# Altium footprint library 117345920.PcbLib: 1 footprints
Each footprint in its own frame and in the unit in brackets; x right, y up, seen from the top. Pads: shape width x height; smd on the part's side, far side on the other; paste and mask are expansions set on the pad; w line width, h text height; cw(c..) or ccw(c..) is an arc to the next point about the centre after c.
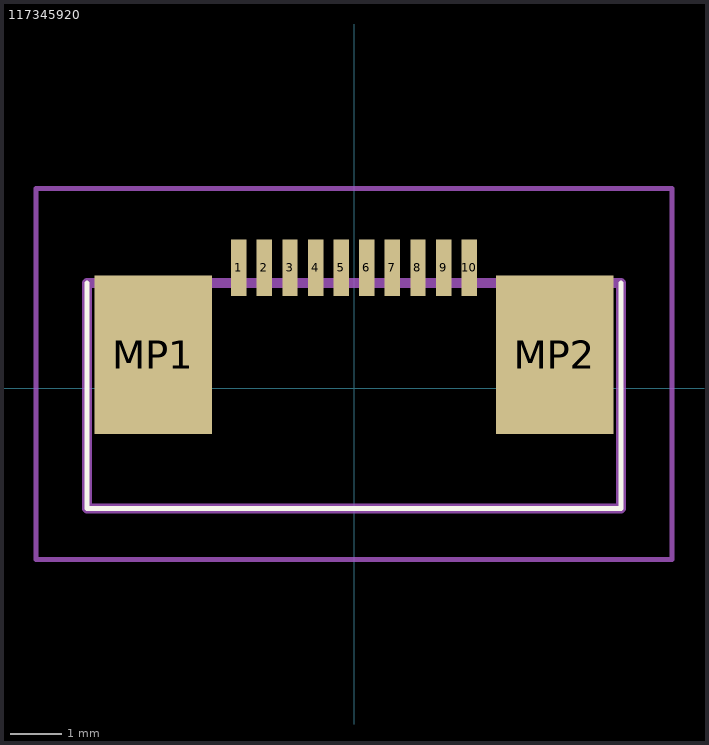
[diagram p0: the footprint, top view; thin cyan lines are the x and y axes]

## 117345920 [mm]
pads (12):
  rect 0.3x1.1 smd: 1(-2.25,2.35) 2(-1.75,2.35) 3(-1.25,2.35) 4(-0.75,2.35) 5(-0.25,2.35) 6(0.25,2.35) 7(0.75,2.35) 8(1.25,2.35) 9(1.75,2.35) 10(2.25,2.35)
  rect 2.3x3.1 smd: MP1(-3.92,0.65) MP2(3.92,0.65)
Top Overlay:
  lines w0.1: -5.215,2.05 -5.215,-2.35 5.215,-2.35 5.215,2.05
Mechanical 15:
  lines w0.2: -5.215,-2.35 5.215,-2.35 5.215,2.05 -5.215,2.05 -5.215,-2.35
Mechanical 20:
  lines w0.1: -6.215,-3.35 6.215,-3.35 6.215,3.9 -6.215,3.9 -6.215,-3.35